# Altium integrated library 500SSP1S1M6QEA_SPDT.IntLib: 1 symbol
Pins are listed as number, name and electrical type; pins without a type are passive.

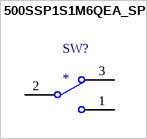
[diagram p0: symbol 500SSP1S1M6QEA_SPDT]

## 500SSP1S1M6QEA_SPDT
designator SW?
SWITCH SLIDE SPDT 5A 120V / Manufacturer PN: 500SSP1S1M6QEA
footprint 500SSP1S1M6QEA_SPDT
pins: 1, 2, 3